# Altium schematic symbol library USB conn type B micro Plug.SchLib: 1 symbol
Pins are listed as number, name and electrical type; pins without a type are passive.

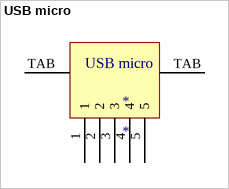
[diagram p0: symbol USB micro]

## USB micro
designator *
footprint usb-microB-plug
pins: 1, 2, 3, 4, 5, TAB tab, TAB tab